# EAGLE library part 70553-12 (library con-molex-c-grid)
C-Grid SL
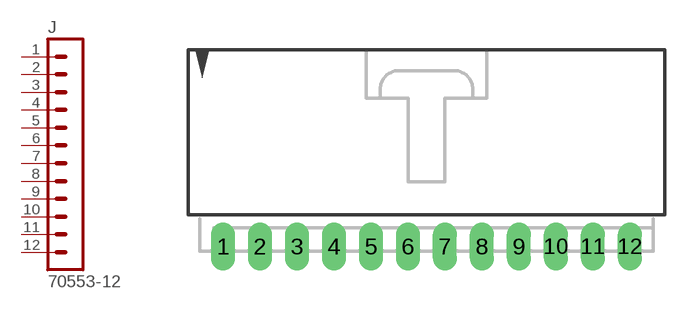
[diagram p26: symbol with the pads of 70553-12; footprint 70553-12]

Designator prefix J

## 70553-12  [70553-12]
1  1  pas
2  2  pas
3  3  pas
4  4  pas
5  5  pas
6  6  pas
7  7  pas
8  8  pas
9  9  pas
10  10  pas
11  11  pas
12  12  pas

## Footprint 70553-12 (pad centres in mm)
C-Grid SL right angle
drill 1.092 long: 1 -13.97,-7.62; 2 -11.43,-7.62; 3 -8.89,-7.62; 4 -6.35,-7.62; 5 -3.81,-7.62; 6 -1.27,-7.62; 7 1.27,-7.62; 8 3.81,-7.62; 9 6.35,-7.62; 10 8.89,-7.62; 11 11.43,-7.62; 12 13.97,-7.62